# EAGLE library part MC100ELT21DTG (library ON_Semiconductor_By_element14_Batch_1)
5V TTL to Differential PECL TTL Translator
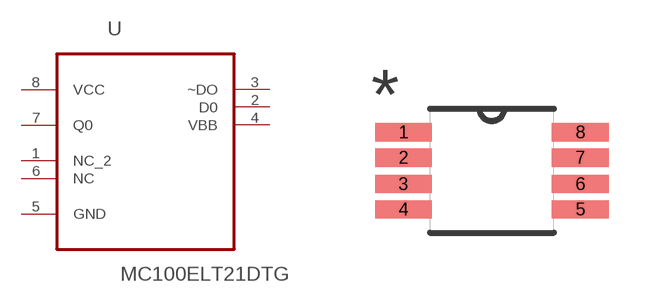
[diagram p89: symbol with the pads of SOP65P490X110-8N; footprint SOP65P490X110-8N]

Designator prefix U

## MC100ELT21DTG (MPN: MC100ELT21DTG; OC_FARNELL: 1199231; OC_NEWARK: 26K3805; PACKAGE: TSSOP-8; SUPPLIER: ON SEMICONDUCTOR)  [SOP65P490X110-8N]
1  NC_2  nc
2  D0  out
3  ~DO  out
4  VBB  out
5  GND  pas
6  NC  nc
7  Q0  in
8  VCC  pwr

## Footprint SOP65P490X110-8N (pad centres in mm)
smd 1.422 x 0.457: 1 -2.21,0.965; 2 -2.21,0.33; 3 -2.21,-0.33; 4 -2.21,-0.965; 5 2.21,-0.965; 6 2.21,-0.33; 7 2.21,0.33; 8 2.21,0.965